# EAGLE library part BME680 (library IoTMakers)
Air Quality Sensors Environmental Sensor VOC IIR EMC Source: Datasheet <https://componentsearchengine.com/Datasheets/1/BME680.pdf>
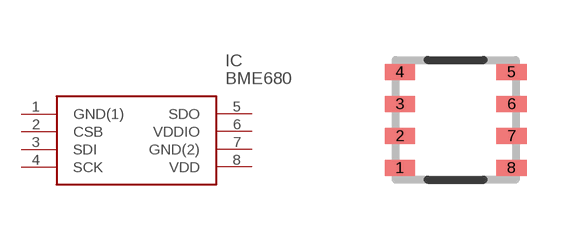
[diagram p8: symbol with the pads of BME680; footprint BME680]

Designator prefix IC

## BME680 (DESCRIPTION: Air Quality Sensors Environmental Sensor VOC IIR EMC; HEIGHT: mm; MANUFACTURER_NAME: Bosch Sensortec; MANUFACTURER_PART_NUMBER: BME680; MOUSER_PART_NUMBER: 262-BME680)  [BME680]
1  GND(1)
2  CSB
3  SDI
4  SCK
5  SDO
6  VDDIO
7  GND(2)
8  VDD

## Footprint BME680 (pad centres in mm)
BME680
smd 0.762 x 0.4: 1 -1.397,-1.2; 2 -1.397,-0.4; 3 -1.397,0.4; 4 -1.397,1.2; 5 1.397,1.2; 6 1.397,0.4; 7 1.397,-0.4; 8 1.397,-1.2